# EAGLE library part MIC94305 (library Microchip)
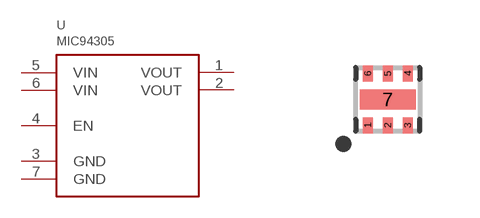
[diagram p43: symbol with the pads of DFN6; footprint DFN6]

Designator prefix U

## MIC94305  [DFN6]
1  VOUT
2  VOUT
3  GND
4  EN
5  VIN
6  VIN
7  GND

## Footprint DFN6 (pad centres in mm)
smd 0.25 x 0.4: 1 -0.5,-0.65; 2 0,-0.65; 3 0.5,-0.65; 4 0.5,0.65; 5 0,0.65; 6 -0.5,0.65
smd 1.4 x 0.5: 7 0,0